# Altium footprint library power.PcbLib: 17 footprints (part 1 of 2)
Each footprint in its own frame and in the unit in brackets; x right, y up, seen from the top. Pads: shape width x height; smd on the part's side, far side on the other; paste and mask are expansions set on the pad; w line width, h text height; cw(c..) or ccw(c..) is an arc to the next point about the centre after c.
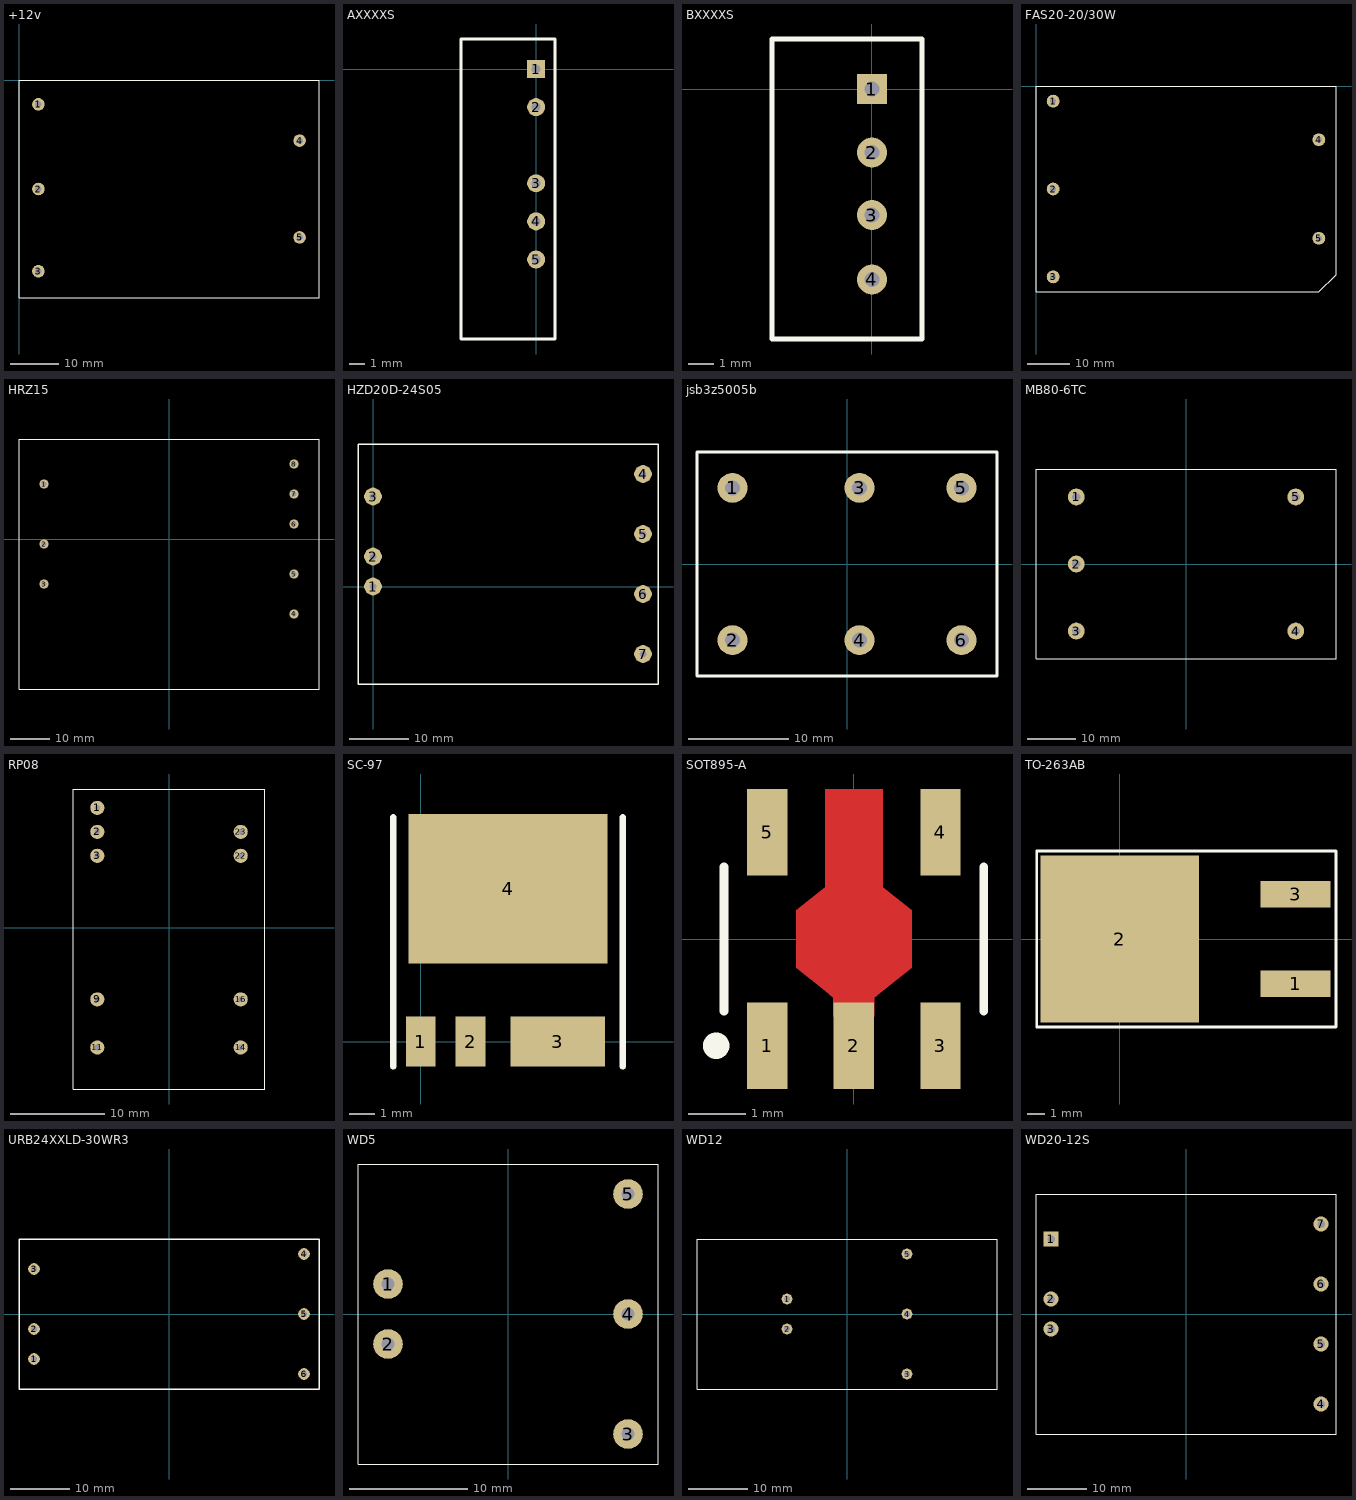
[diagram p0: the footprints below, top view; thin cyan lines are the x and y axes]

## +12v [mm] "ac220v->+12v,+24v"
pads (5):
  round 2.6 hole 1.3: 1(4,-5) 2(4,-22.5) 3(4,-39.5) 4(58,-12.5) 5(58,-32.5)
Top Overlay:
  lines w0.254: 0,-45 62,-45 62,0 0,0 0,-45

## AXXXXS [mm] "DC-DC POWER"
pads (5):
  rect 1.2x1.2 hole 0.6: 1(0,0)
  round 1.2 hole 0.6: 2(0,-2.54) 3(0,-7.62) 4(0,-10.16) 5(0,-12.7)
Top Overlay:
  lines w0.2: -5,-18 -5,2 0,2 1.25,2 1.25,-18 -5,-18

## BXXXXS [mm] "DC-DC POWER 5V-5V"
pads (4):
  rect 1.2x1.2 hole 0.6: 1(0,0)
  round 1.2 hole 0.6: 2(0,-2.54) 3(0,-5.04) 4(0,-7.62)
Top Overlay:
  lines w0.2: -4,-10 2,-10 2,2 -4,2 -4,-10

## FAS20-20/30W [mm]
height 24
pads (5):
  round 3 hole 1.4: 1(4,-3.5) 2(4,-24) 3(4,-44.5) 4(66,-12.5) 5(66,-35.5)
Top Overlay:
  lines w0.254: 0,-48 66,-48 70,-44 70,0 0,0 0,-48

## HRZ15 [mil] "DC-AC RING SOURCE"
height 10
pads (8):
  round 90 hole 50: 1(-1250,550) 2(-1250,-50) 3(-1250,-450) 4(1250,-750) 5(1250,-350) 6(1250,150) 7(1250,450) 8(1250,750)
Top Overlay:
  lines w5: -1500,-1500 1500,-1500 1500,1000 -1500,1000 -1500,-1500

## HZD20D-24S05 [mm] "DCDC"
height 11.176
pads (7):
  round 3 hole 1.2: 1(0,0) 2(0,5.08) 3(0,15.24) 4(45.72,19.05) 5(45.72,8.89) 6(45.72,-1.27) 7(45.72,-11.43)
Top Overlay:
  lines w0.254: -2.54,-16.51 -2.54,24.13 48.26,24.13 48.26,-16.51 -2.54,-16.51

## jsb3z5005b [mm] "直流滤波器"
height 10
pads (6):
  round 3 hole 1.5: 1(-11.45,7.62) 2(-11.45,-7.62) 3(1.25,7.62) 4(1.25,-7.62) 5(11.45,7.62) 6(11.45,-7.62)
Top Overlay:
  lines w0.254: -15,-11.2 15,-11.2 15,11.2 -15,11.2 -15,-11.2

## MB80-6TC [mm] "DC FILTER"
height 21
pads (5):
  round 3.5 hole 1.7: 1(-22.86,13.97) 2(-22.86,0) 3(-22.86,-13.97) 4(22.86,-13.97) 5(22.86,13.97)
Top Overlay:
  lines w0.152: -31.25,-19.75 31.25,-19.75 31.25,19.75 -31.25,19.75 -31.25,-19.75

## RP08 [mm]
height 10.2
pads (9):
  round 1.5 hole 0.6: 1(-7.6,12.7) 2(-7.6,10.16) 3(-7.6,7.62) 9(-7.6,-7.6) 11(-7.6,-12.7) 14(7.6,-12.7) 16(7.6,-7.6) 22(7.6,7.62) 23(7.6,10.16)
Top Overlay:
  lines w0.102: -10.15,-17.1 10.15,-17.1 10.15,14.7 -10.15,14.7 -10.15,-17.1

## SC-97 [mm]
height 3
pads (4):
  rect 1.2x2 smd: 1(0,0) 2(2,0)
  rect 3.8x2 smd: 3(5.5,0)
  rect 8x6 smd: 4(3.5,6.131)
Top Overlay:
  lines w0.254: -1.1,-1 -1.1,9 ; 8.1,-1 8.1,9

## SOT895-A [mm] "FOR S-1131B33UC-N4STFG"
height 1.5
pads (5):
  rect 0.7x1.5 smd: 1(-1.5,-1.85) 2(0,-1.85) 3(1.5,-1.85) 4(1.5,1.85) 5(-1.5,1.85)
Top Layer:
  region: -0.357,-1.342 -0.356,-1.016 -0.5,-0.9 -1,-0.5 -1,0.5 -0.5,0.9 -0.5,2.6 0.5,2.6 0.5,0.9 1,0.5 1,-0.5 0.5,-0.9 0.356,-1.016 0.354,-1.342
Top Overlay:
  circle w0.254: c-2.388,-1.85 r0.102
  lines w0.152: -2.25,-1.25 -2.25,1.25 ; 2.25,-1.25 2.25,1.25

## TO-263AB [mm] "D2PAK FOR FBD"
height 4.5
pads (3):
  rect 4x1.5 smd: 1(10,-2.54) 3(10,2.54)
  rect 9x9.5 smd: 2(0,0)
Top Overlay:
  lines w0.152: 12.3,-5 -4.7,-5 -4.7,5 12.3,5 ; 12.3,-4.928 12.3,4.978

## URB24XXLD-30WR3 [mm] "DCDC"
height 16.307
pads (6):
  round 2 hole 1.1: 1(-22.86,-7.62) 2(-22.86,-2.54) 3(-22.86,7.62) 4(22.86,10.16) 5(22.86,0) 6(22.86,-10.16)
Top Overlay:
  lines w0.254: -25.4,-12.7 -25.4,12.7 25.4,12.7 25.4,-12.7 -25.4,-12.7

## WD5 [mm]
height 10.16
pads (5):
  round 2.5 hole 1.1: 1(-10.16,2.54) 2(-10.16,-2.54) 3(10.16,-10.16) 4(10.16,0) 5(10.16,10.16)
Top Overlay:
  lines w0.102: -12.7,-12.7 12.7,-12.7 12.7,12.7 -12.7,12.7 -12.7,-12.7

## WD12 [mm]
height 10.16
pads (5):
  round 1.8 hole 1.1: 1(-10.16,2.54) 2(-10.16,-2.54) 3(10.16,-10.16) 4(10.16,0) 5(10.16,10.16)
Top Overlay:
  lines w0.102: -25.4,-12.7 -25.4,12.7 25.4,12.7 25.4,-12.7 -25.4,-12.7

## WD20-12S [mm] "DCDC"
height 10.16
pads (7):
  rect 2.54x2.54 hole 1.27: 1(-22.86,12.7)
  round 2.54 hole 1.27: 2(-22.86,2.54) 3(-22.86,-2.54) 4(22.86,-15.24) 5(22.86,-5.08) 6(22.86,5.08) 7(22.86,15.24)
Top Overlay:
  lines w0.102: -25.4,-20.32 25.4,-20.32 25.4,20.32 -25.4,20.32 -25.4,-20.32